# EAGLE library part USB_CON_FEM_A (library Connectors)
基板取付用ＵＳＢコネクタ（Ａタイプ メス） ■基板用のＡコネクタ（ホスト側）です。
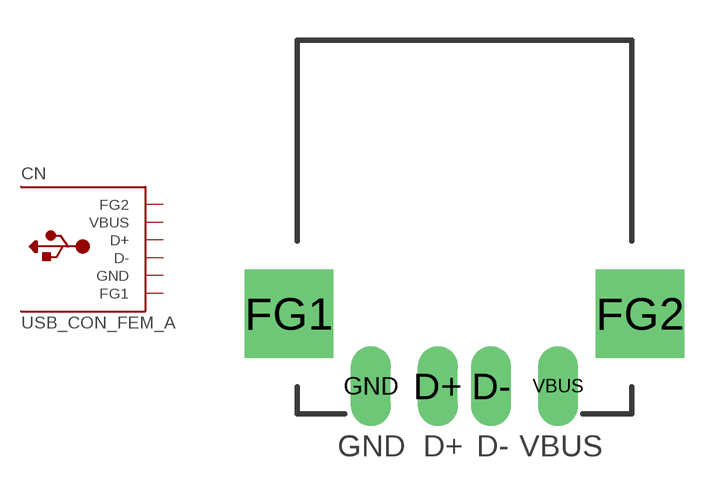
[diagram p0: symbol with the pads of USB-4AF103BS; footprint USB-4AF103BS]

Designator prefix CN

## USB_CON_FEM_A  [USB-4AF103BS]
D+  D+
D-  D-
FG1  FG1  pas
FG2  FG2  pas
GND  GND  pas
VBUS  VBUS  pas

## Footprint USB-4AF103BS (pad centres in mm)
drill 0.9 pad 1.5 long: D+ 5.25,1.04; D- 7.25,1.04; GND 2.75,1.04; VBUS 9.75,1.04
drill 2.3 square: FG1 -0.32,3.75; FG2 12.82,3.75